# EAGLE library part LT1962EMS8 (library XYKlib)
LT1962 300mA, Low Noise, Micropower LDO Regulators in MSOP-08 Package
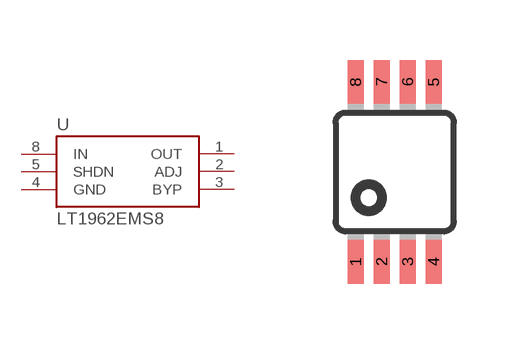
[diagram p1: symbol with the pads of MSOP08; footprint MSOP08]

Designator prefix U

## LT1962EMS8  [MSOP08]
1  OUT
2  ADJ
3  BYP
4  GND
5  SHDN
8  IN

## Footprint MSOP08 (pad centres in mm)
8M, 8-Lead, 0.118" Wide, Miniature Small Outline Package MSOP 8M-Package doc1097.pdf
smd 0.4 x 1.1: 1 -0.975,-2.25; 2 -0.325,-2.25; 3 0.325,-2.25; 4 0.975,-2.25; 5 0.975,2.25; 6 0.325,2.25; 7 -0.325,2.25; 8 -0.975,2.25